# Altium footprint library PcbLib1 (2).PcbLib: 21 footprints (part 1 of 2)
Each footprint in its own frame and in the unit in brackets; x right, y up, seen from the top. Pads: shape width x height; smd on the part's side, far side on the other; paste and mask are expansions set on the pad; w line width, h text height; cw(c..) or ccw(c..) is an arc to the next point about the centre after c.
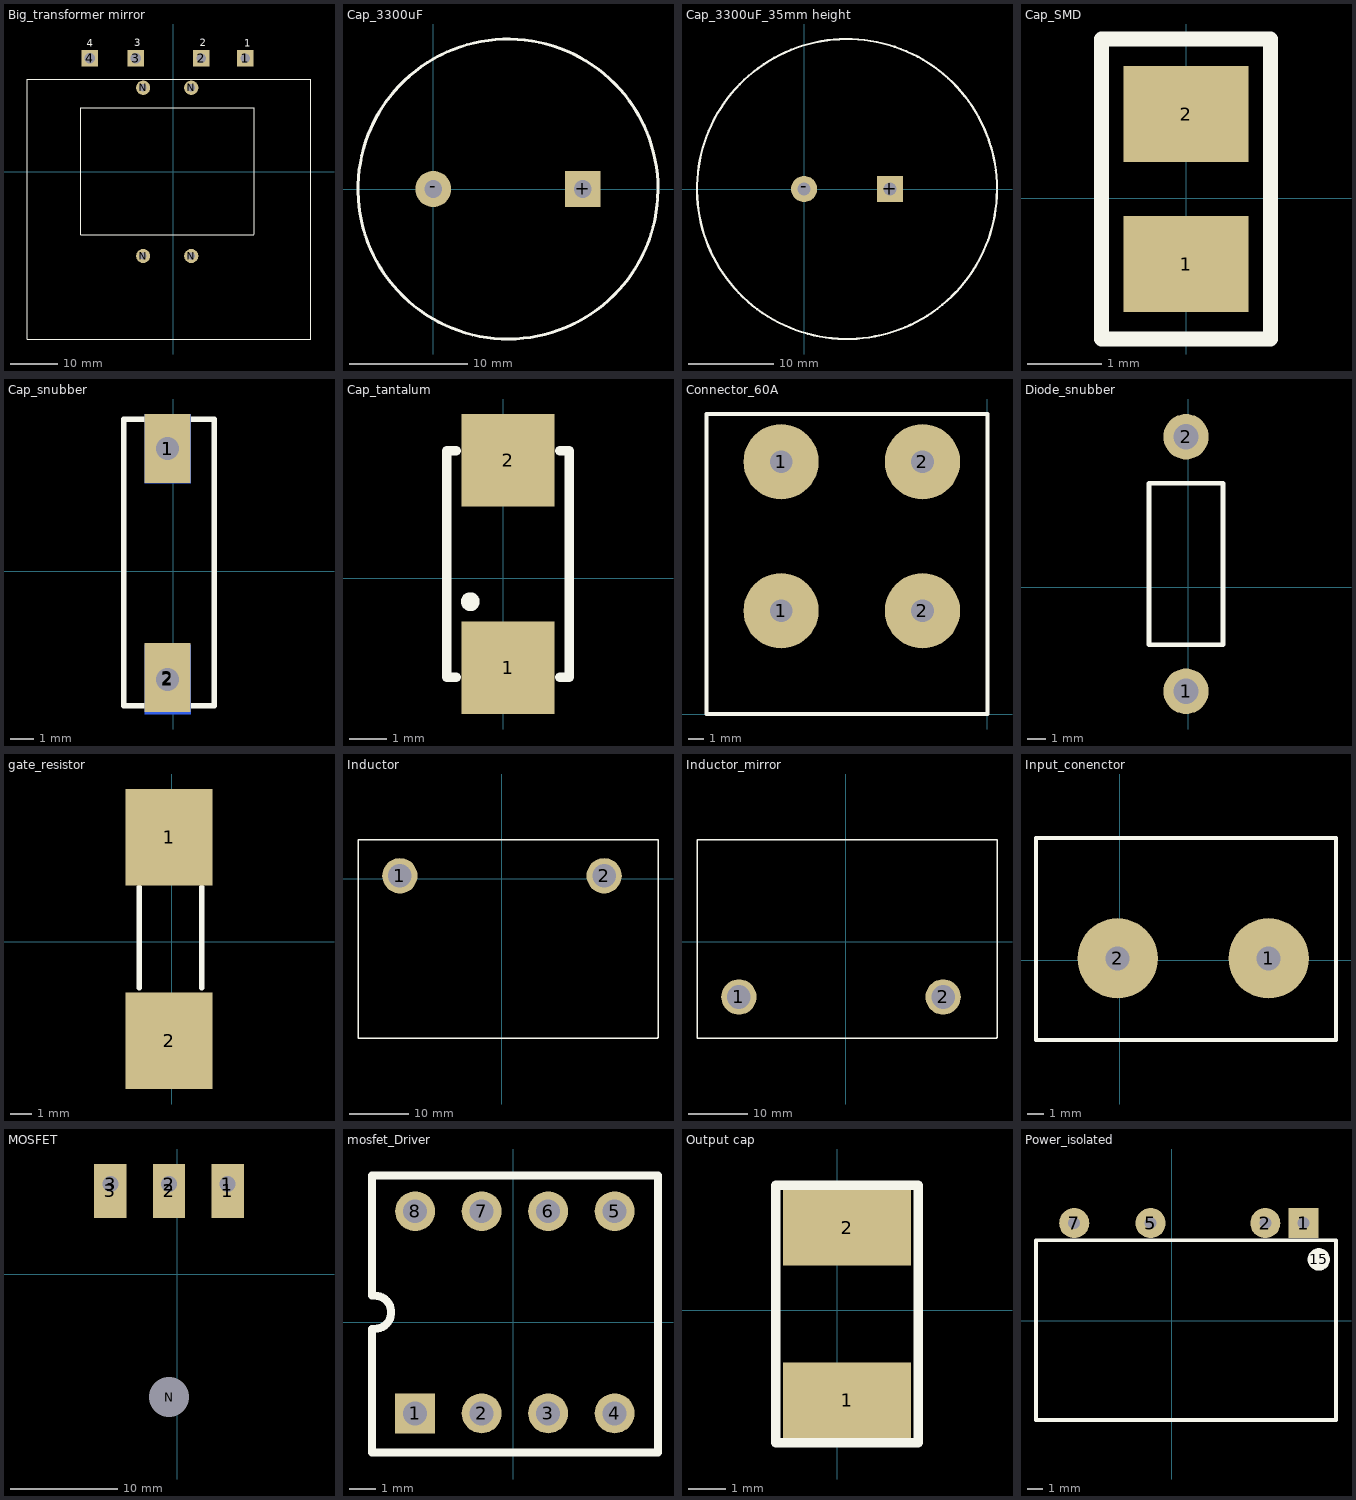
[diagram p0: the footprints below, top view; thin cyan lines are the x and y axes]

## Big_transformer mirror [mm]
pads (8):
  rect 3.5x3.5 hole 2: 1(15.24,24) 2(5.969,24)
  rect 3.5x3.5 hole 2.2: 3(-7.874,24) 4(-17.653,24)
  round 3 hole 1.5: N(-6.35,-17.773) N(-6.35,17.773) N(3.81,-17.773) N(3.81,17.773)
Top Overlay:
  lines w0.254: 17.018,-13.335 -19.558,-13.335 -19.558,13.589 17.145,13.589 17.145,-13.208 ; -30.861,-35.306 29.083,-35.306 29.083,19.558 -30.861,19.558 -30.861,-35.306
  text "4" at -18.288,26.416 h1.52
  text "3" at -8.255,26.543 h1.52
  text "2" at 5.588,26.543 h1.52
  text "1" at 14.986,26.416 h1.52
3D body: height 38.1, standoff 0, extent -30.734,-35.306 29.083,19.685

## Cap_3300uF [mil]
pads (2):
  rect 120x120 hole 60: +(500,0)
  round 120 hole 60: -(0,0)
Top Overlay:
  lines w10: 751.57,-4.97 cw(c250,0) 751.6,0
3D body: height 1950, standoff 0, extent -246.06,-499.01 750,499.02

## Cap_3300uF_35mm height [mil]
pads (2):
  rect 120x120 hole 60: +(393.7,0)
  round 120 hole 60: -(0,0)
Top Overlay:
  lines w10: 885.79,-6.82 cw(c196.85,0) 885.83,0
3D body: height 1377.95, standoff 0, extent -492.95,-690 885,687.57

## Cap_SMD [mm]
pads (2):
  rect 1.7x1.3 smd: 1(0,-0.889) 2(0,1.143)
Top Overlay:
  lines w0.2: -1.143,-1.905 0,-1.905 1.143,-1.905 1.143,2.159 -1.143,2.159 -1.143,-1.905

## Cap_snubber [mm]
pads (6):
  rect 2x2 hole 1: 1(-0.254,5.334) 2(-0.254,-4.699)
  rect 2x3 smd: 1(-0.254,5.334) 2(-0.254,-4.619)
  rect 2x3 smd far side: 1(-0.254,5.334) 2(-0.254,-4.699)
Top Overlay:
  lines w0.254: -2.159,-5.842 -2.159,6.604 1.778,6.604 1.778,6.096 1.778,-5.842 -2.159,-5.842

## Cap_tantalum [mm]
pads (2):
  rect 2.5x2.5 smd: 1(0.127,-2.413) 2(0.127,3.175)
Top Overlay:
  circle w0.254: c-0.889,-0.635 r0.127
  lines w0.254: -1.27,-2.667 -1.524,-2.667 -1.524,3.429 -1.27,3.429 ; 1.524,-2.667 1.778,-2.667 1.778,3.429 1.524,3.429
3D body: height 3.3, standoff 0, extent -1.651,-2.794 1.905,3.556

## Connector_60A [mm]
pads (4):
  round 5 hole 1.5: 1(-13.716,6.858) 1(-13.716,16.764) 2(-4.318,6.858) 2(-4.318,16.764)
Top Overlay:
  lines w0.254: -18.669,0 0,0 0,19.939 -18.669,19.939 -18.669,0
3D body: height 29.46, standoff 0, extent -18.796,-0.127 0.127,20.066

## Diode_snubber [mm]
pads (2):
  round 2.5 hole 1.4: 1(-0.127,-5.73) 2(-0.127,8.27)
Top Overlay:
  lines w0.254: -2.159,-3.175 -2.159,-1.651 -2.159,5.715 1.905,5.715 1.905,-3.175 -2.159,-3.175

## gate_resistor [mm]
pads (2):
  rect 4.06x4.5 smd: 1(-0.127,4.877) 2(-0.127,-4.623)
Top Overlay:
  lines w0.254: -1.524,-2.159 -1.524,2.54 ; 1.397,-2.159 1.397,2.54

## Inductor [mm]
pads (2):
  round 6 hole 4: 1(-17.272,0.508) 2(17.399,0.508)
Top Overlay:
  lines w0.254: -24.384,5.334 -24.384,6.604 26.543,6.604 26.543,-26.924 26.416,-27.051 -24.384,-27.051 -24.384,5.715
3D body: height 43.18, standoff 0, extent -24.511,-27.178 26.67,6.731

## Inductor_mirror [mm]
pads (2):
  round 6 hole 4: 1(-18.161,-9.398) 2(16.51,-9.398)
Top Overlay:
  lines w0.254: -25.273,16.002 -25.273,17.272 25.654,17.272 25.654,-16.256 25.527,-16.383 -25.273,-16.383 -25.273,16.383
3D body: height 43.18, standoff 0, extent -25.4,-16.51 25.781,17.399

## Input_conenctor [mm]
pads (2):
  round 5 hole 1.5: 1(9.271,0.127) 2(-0.127,0.127)
Top Overlay:
  lines w0.254: -5.207,-4.953 13.462,-4.953 13.462,7.62 -5.207,7.62 -5.207,-4.953
3D body: height 29.46, standoff 0, extent -5.334,-5.08 13.589,7.747

## MOSFET [mm]
pads (7):
  rect 2.5x2.5 hole 1.5: 1(4.678,8.382)
  rect 3x5 smd: 1(4.699,7.747) 2(-0.762,7.747) 3(-6.223,7.747)
  round 2.5 hole 1.5: 2(-0.762,8.382) 3(-6.202,8.382)
  round 1.5 / inner round 2.5 / far side round 2.5 hole 3.7: N(-0.762,-11.43)
Bottom Overlay:
  lines w0.254: -8.89,-17.653 -8.89,3.302 7.366,3.302 7.366,-17.653 -8.89,-17.653

## mosfet_Driver [mm]
pads (8):
  rect 1.5x1.5 hole 0.9: 1(-3.683,-3.429)
  round 1.5 hole 0.9: 2(-1.183,-3.429) 3(1.317,-3.429) 4(3.817,-3.429) 5(3.817,4.171) 6(1.317,4.171) 7(-1.183,4.171) 8(-3.683,4.171)
Top Overlay:
  lines w0.3: -5.314,-0.254 -5.314,-4.896 5.448,-4.896 5.448,5.511 -5.314,5.511 -5.314,0.996 ; -5.207,-0.254 ccw(c-5.207,0.371) -5.207,0.996

## Output cap [mm]
pads (2):
  rect 3.4x2 smd: 1(0.254,-2.402) 2(0.254,2.198)
Top Overlay:
  lines w0.254: -1.651,-3.531 1.524,-3.531 2.159,-3.531 2.159,3.327 -1.651,3.327 -1.651,-3.531
3D body: height 3.3, standoff 0, extent -1.778,-3.658 2.286,3.454

## Power_isolated [mm]
pads (5):
  rect 2x2 hole 0.8: 1(8.763,6.477)
  round 2 hole 0.8: 2(6.223,6.477) 5(-1.397,6.477) 7(-6.477,6.477)
  round 1.5 on Top Overlay: 15(9.779,4.064)
Top Overlay:
  lines w0.254: -9.017,-6.604 10.922,-6.604 10.922,5.334 -9.017,5.334 -9.017,-6.604
3D body: height 8.89, standoff 0, extent -9.016,-6.603 10.921,5.333